# Altium schematic symbol library GOSTInductor.SchLib: 10 symbols
Pins are listed as number, name and electrical type; pins without a type are passive.

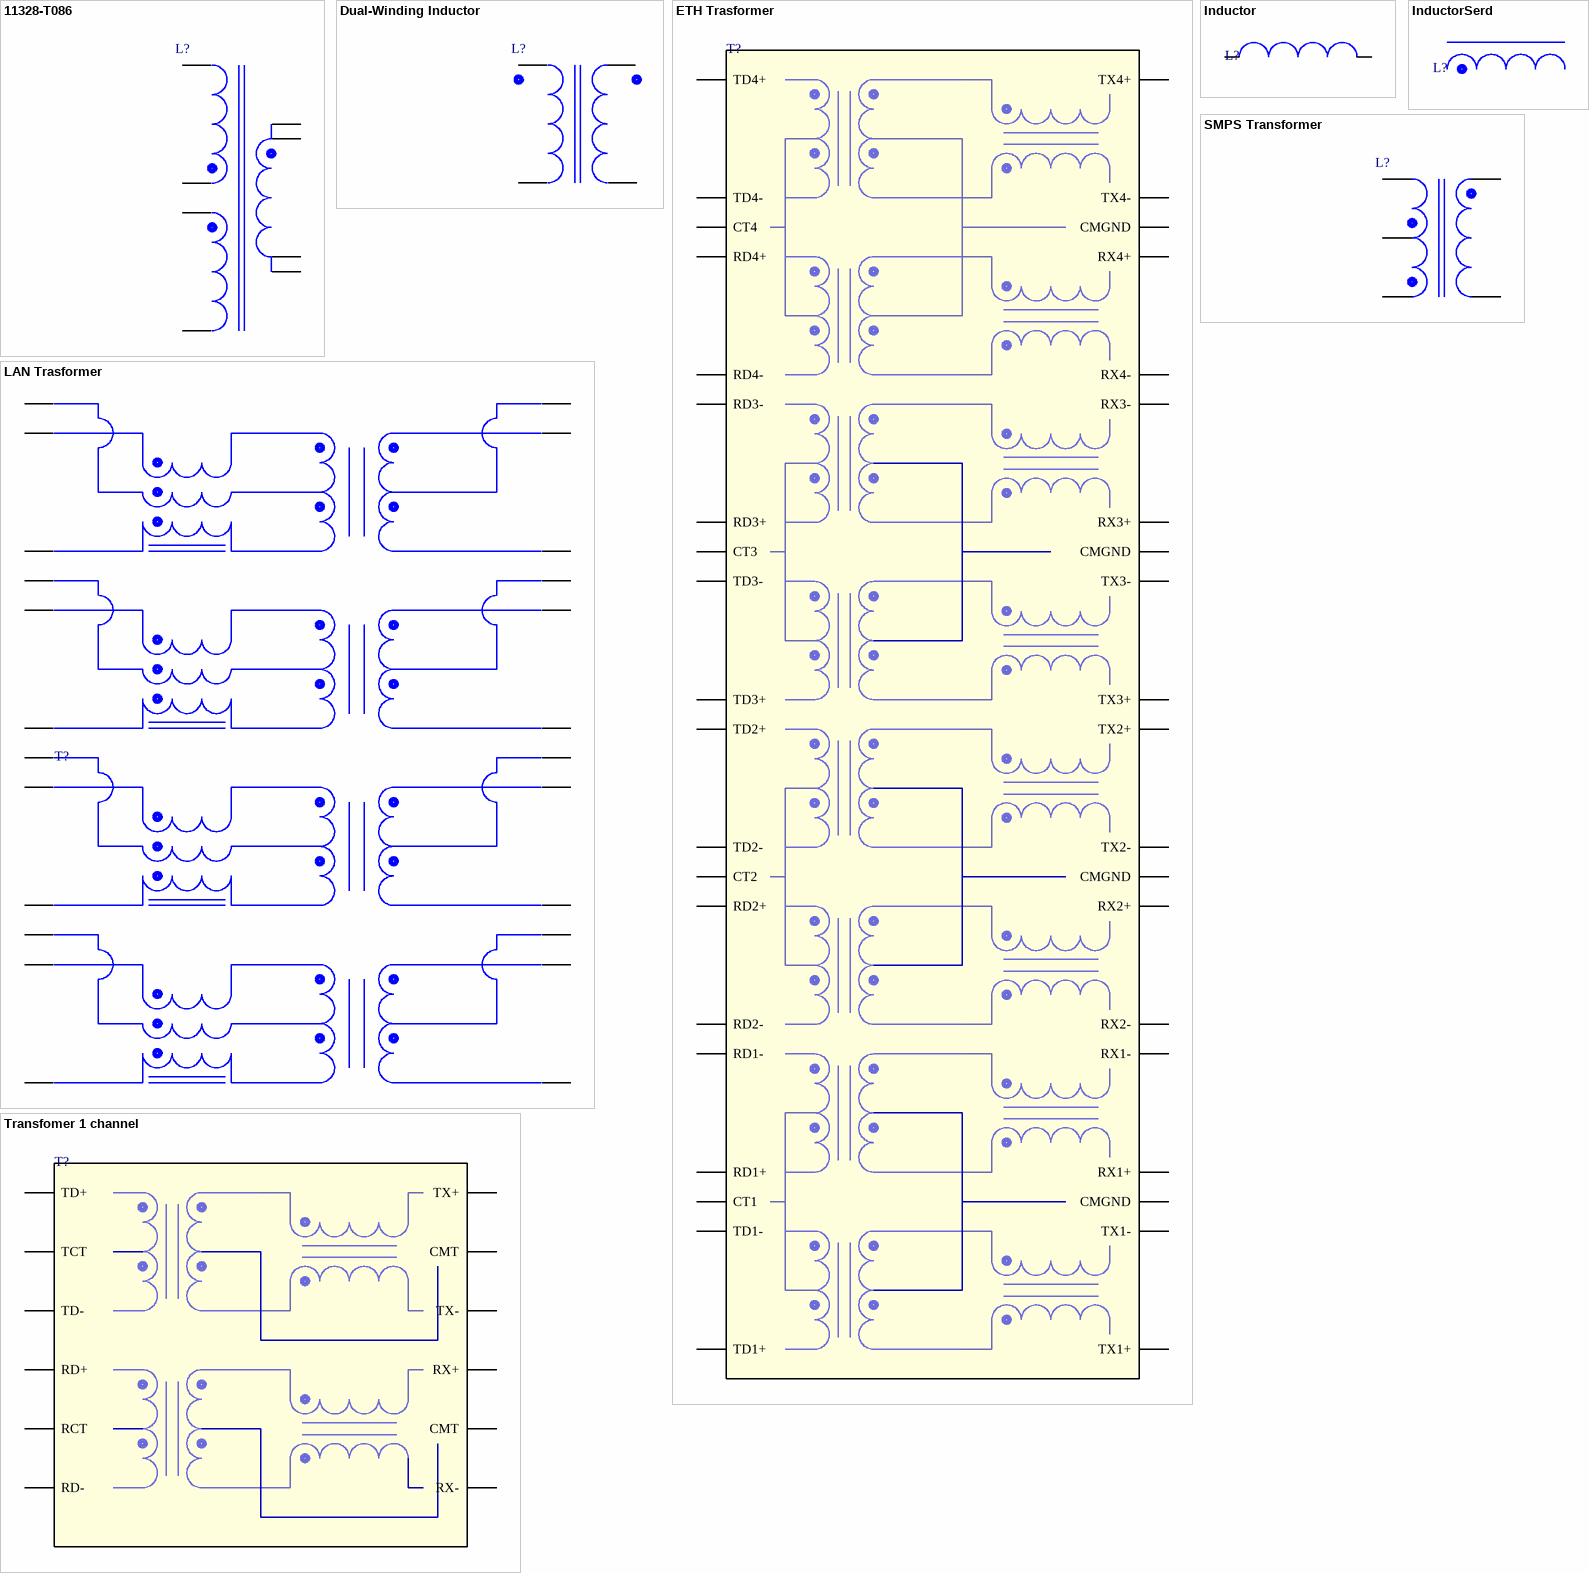
[diagram p0: symbols 11328-T086 to Transfomer 1 channel]

## 11328-T086
designator L?
Синфазный дроссель
pins: 1, 3, 5, 6, 8, 9, 10, 11

## Dual-Winding Inductor
designator L?
Синфазный дроссель
pins: 1, 2, 3, 4

## ETH Trasformer
designator T?
EMI Suppression Filter
pins: 1 TD4+, 2 TD4-, 3 CT4, 4 RD4+, 5 RD4-, 6 RD3-, 7 RD3+, 8 CT3, 9 TD3-, 10 TD3+, 11 TD2+, 12 TD2-, 13 CT2, 14 RD2+, 15 RD2-, 16 RD1-, 17 RD1+, 18 CT1, 19 TD1-, 20 TD1+, 21 TX1+, 22 TX1-, 23 CMGND, 24 RX1+, 25 RX1-, 26 RX2-, 27 RX2+, 28 CMGND, 29 TX2-, 30 TX2+, 31 TX3+, 32 TX3-, 33 CMGND, 34 RX3+, 35 RX3-, 36 RX4-, 37 RX4+, 38 CMGND, 39 TX4-, 40 TX4+

## Inductor
designator L?
EMI Suppression Filter
pins: 1, 2

## InductorSerd
designator L?
EMI Suppression Filter
pins: 1, 2

## LAN Trasformer
designator T?
EMI Suppression Filter
pins: 1 TCT1, 2 TD1+, 3 TD1-, 4 TCT2, 5 TD2+, 6 TD2-, 7 TCT3, 8 TD3+, 9 TD3-, 10 TCT4, 11 TD4+, 12 TD4-, 13 MX4-, 14 MX4+, 15 MCT4, 16 MX3-, 17 MX3+, 18 MCT3, 19 MX2-, 20 MX2+, 21 MCT2, 22 MX1-, 23 MX1+, 24 MCT1

## SMPS Transformer
designator L?
SMPS Transformer DC DC
pins: 3, 4, 5, 7, 9

## Transfomer 1 channel
designator T?
pins: 1 TD+, 2 TCT, 3 TD-, 6 RD+, 7 RCT, 8 RD-, 9 RX-, 10 CMT, 11 RX+, 14 TX-, 15 CMT, 16 TX+

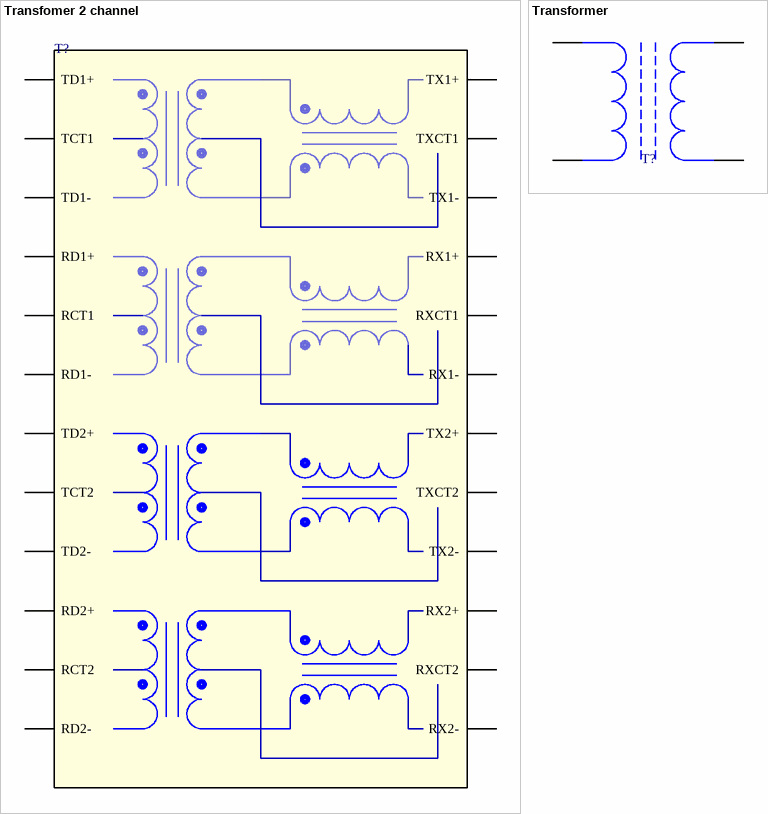
[diagram p1: symbols Transfomer 2 channel to Transformer]

## Transfomer 2 channel
designator T?
pins: 1 TD1+, 2 TCT1, 3 TD1-, 4 RD1+, 5 RCT1, 6 RD1-, 7 TD2+, 8 TCT2, 9 TD2-, 10 RD2+, 11 RCT2, 12 RD2-, 13 RX2-, 14 RXCT2, 15 RX2+, 16 TX2-, 17 TXCT2, 18 TX2+, 19 RX1-, 20 RXCT1, 21 RX1+, 22 TX1-, 23 TXCT1, 24 TX1+

## Transformer
designator T?
EMI Suppression Filter
pins: 1, 1, 1, 2, 2, 2, 3, 4